# EAGLE library part 622338234421 (library Wurth_Elektronik2)
F Str SMT 38p 2 rows 2.20mm height, positioning peg, bottom entry type flash gold
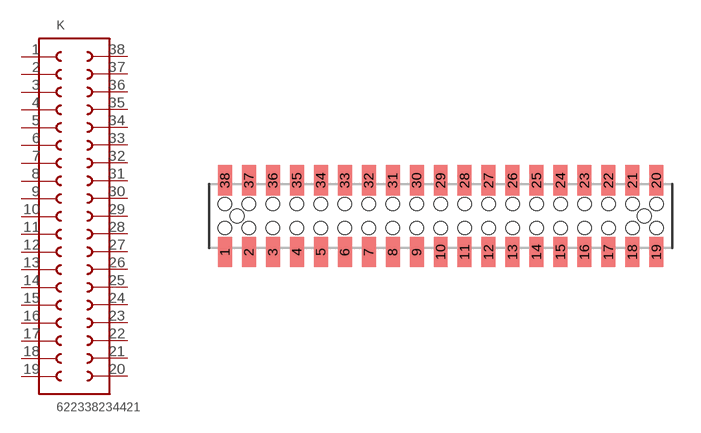
[diagram p320: symbol with the pads of 622338234421; footprint 622338234421]

Designator prefix K

## 622338234421  [622338234421]
1  1  pas
2  2  pas
3  3  pas
4  4  pas
5  5  pas
6  6  pas
7  7  pas
8  8  pas
9  9  pas
10  10  pas
11  11  pas
12  12  pas
13  13  pas
14  14  pas
15  15  pas
16  16  pas
17  17  pas
18  18  pas
19  19  pas
20  20  pas
21  21  pas
22  22  pas
23  23  pas
24  24  pas
25  25  pas
26  26  pas
27  27  pas
28  28  pas
29  29  pas
30  30  pas
31  31  pas
32  32  pas
33  33  pas
34  34  pas
35  35  pas
36  36  pas
37  37  pas
38  38  pas

## Footprint 622338234421 (pad centres in mm)
F Str SMT 38p 2 rows 2.20mm height, positioning peg, bottom entry type flash gold
smd 0.74 x 1.6: 1 -12.065,-1.9; 2 -10.795,-1.9; 3 -9.525,-1.9; 4 -8.255,-1.9; 5 -6.985,-1.9; 6 -5.715,-1.9; 7 -4.445,-1.9; 8 -3.175,-1.9; 9 -1.905,-1.9; 10 -0.635,-1.9; 11 0.635,-1.9; 12 1.905,-1.9; 13 3.175,-1.9; 14 4.445,-1.9; 15 5.715,-1.9; 16 6.985,-1.9; 17 8.255,-1.9; 18 9.525,-1.9; 19 10.795,-1.9; 20 10.795,1.9; 21 9.525,1.9; 22 8.255,1.9; 23 6.985,1.9; 24 5.715,1.9; 25 4.445,1.9; 26 3.175,1.9; 27 1.905,1.9; 28 0.635,1.9; 29 -0.635,1.9; 30 -1.905,1.9; 31 -3.175,1.9; 32 -4.445,1.9; 33 -5.715,1.9; 34 -6.985,1.9; 35 -8.255,1.9; 36 -9.525,1.9; 37 -10.795,1.9; 38 -12.065,1.9
hole 0.7 at -12.065,0.635
hole 0.7 at -10.795,0.635
hole 0.7 at -9.525,0.635
hole 0.7 at -8.255,0.635
hole 0.7 at -6.985,0.635
hole 0.7 at -5.715,0.635
hole 0.7 at -4.445,0.635
hole 0.7 at -3.175,0.635
hole 0.7 at -1.905,0.635
hole 0.7 at -0.635,0.635
hole 0.7 at 0.635,0.635
hole 0.7 at 1.905,0.635
hole 0.7 at 3.175,0.635
hole 0.7 at 4.445,0.635
hole 0.7 at 5.715,0.635
hole 0.7 at 6.985,0.635
hole 0.7 at 8.255,0.635
hole 0.7 at 9.525,0.635
hole 0.7 at 10.795,0.635
hole 0.7 at -12.065,-0.635
hole 0.7 at -10.795,-0.635
hole 0.7 at -9.525,-0.635
hole 0.7 at -8.255,-0.635
hole 0.7 at -6.985,-0.635
hole 0.7 at -5.715,-0.635
hole 0.7 at -4.445,-0.635
hole 0.7 at -3.175,-0.635
hole 0.7 at -1.905,-0.635
hole 0.7 at -0.635,-0.635
hole 0.7 at 0.635,-0.635
hole 0.7 at 1.905,-0.635
hole 0.7 at 3.175,-0.635
hole 0.7 at 4.445,-0.635
hole 0.7 at 5.715,-0.635
hole 0.7 at 6.985,-0.635
hole 0.7 at 8.255,-0.635
hole 0.7 at 9.525,-0.635
hole 0.7 at 10.795,-0.635
hole 0.75 at -11.43,0
hole 0.75 at 10.16,0